# EAGLE library part XC3S-FT256 (library Xilinx)
Spartan 3 chip in a FT256 package for 200, 400 and 1000 dies
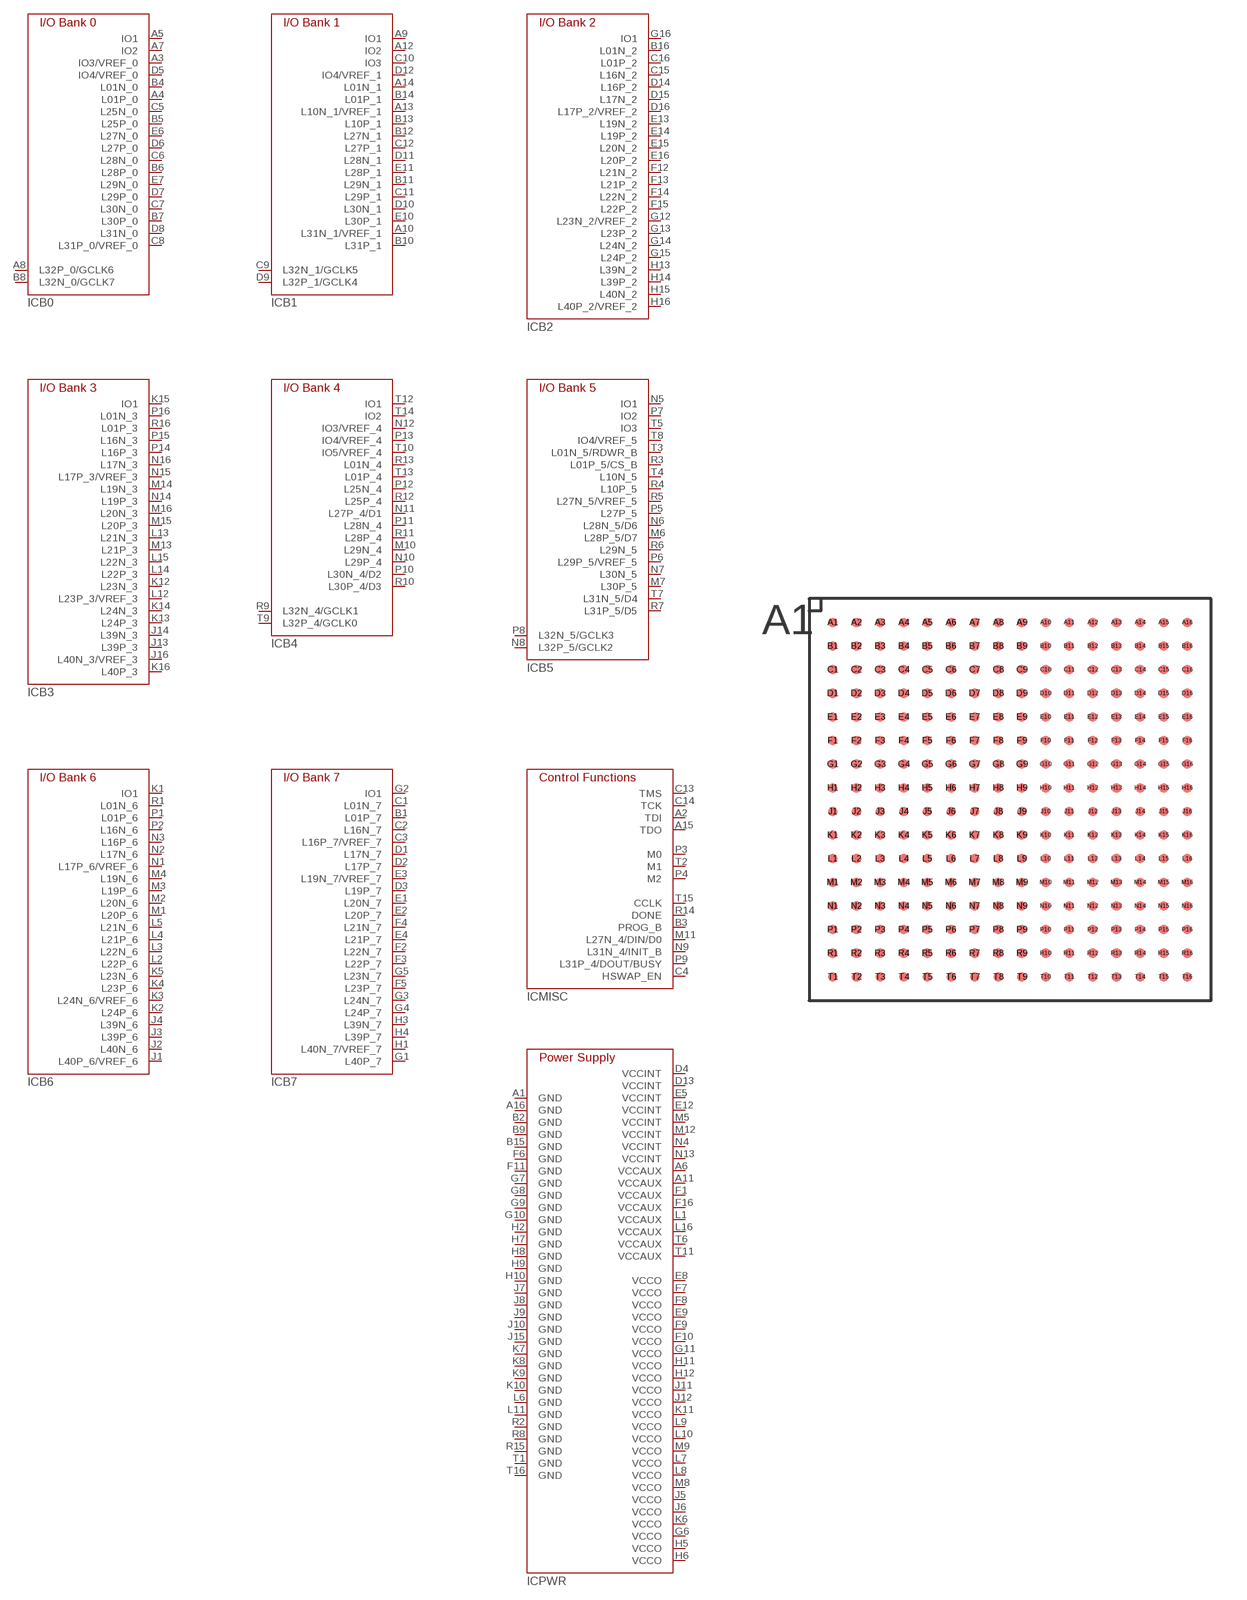
[diagram p27: symbol with the pads of FG256; footprint FG256]

Designator prefix IC; gates B0=XC3S/FT256-B0 B1=XC3S/FT256-B1 B2=XC3S/FT256-B2 B3=XC3S/FT256-B3 B4=XC3S/FT256-B4 B5=XC3S/FT256-B5 B6=XC3S/FT256-B6 B7=XC3S/FT256-B7 MISC=XC3S/FT256-MISC PWR=XC3S/FT256-PWR

## XC3S-FT256  [FG256]
A1  PWR:GND  pwr
A2  MISC:TDI
A3  B0:IO3/VREF_0
A4  B0:L01P_0
A5  B0:IO1
A6  PWR:VCCAUX  pwr
A7  B0:IO2
A8  B0:L32P_0/GCLK6
A9  B1:IO1
A10  B1:L31N_1/VREF_1
A11  PWR:VCCAUX  pwr
A12  B1:IO2
A13  B1:L10N_1/VREF_1
A14  B1:L01N_1
A15  MISC:TDO
A16  PWR:GND  pwr
B1  B7:L01P_7
B2  PWR:GND  pwr
B3  MISC:PROG_B
B4  B0:L01N_0
B5  B0:L25P_0
B6  B0:L28P_0
B7  B0:L30P_0
B8  B0:L32N_0/GCLK7
B9  PWR:GND  pwr
B10  B1:L31P_1
B11  B1:L29N_1
B12  B1:L27N_1
B13  B1:L10P_1
B14  B1:L01P_1
B15  PWR:GND  pwr
B16  B2:L01N_2
C1  B7:L01N_7
C2  B7:L16N_7
C3  B7:L16P_7/VREF_7
C4  MISC:HSWAP_EN
C5  B0:L25N_0
C6  B0:L28N_0
C7  B0:L30N_0
C8  B0:L31P_0/VREF_0
C9  B1:L32N_1/GCLK5
C10  B1:IO3
C11  B1:L29P_1
C12  B1:L27P_1
C13  MISC:TMS
C14  MISC:TCK
C15  B2:L16N_2
C16  B2:L01P_2
D1  B7:L17N_7
D2  B7:L17P_7
D3  B7:L19P_7
D4  PWR:VCCINT  pwr
D5  B0:IO4/VREF_0
D6  B0:L27P_0
D7  B0:L29P_0
D8  B0:L31N_0
D9  B1:L32P_1/GCLK4
D10  B1:L30N_1
D11  B1:L28N_1
D12  B1:IO4/VREF_1
D13  PWR:VCCINT  pwr
D14  B2:L16P_2
D15  B2:L17N_2
D16  B2:L17P_2/VREF_2
E1  B7:L20N_7
E2  B7:L20P_7
E3  B7:L19N_7/VREF_7
E4  B7:L21P_7
E5  PWR:VCCINT  pwr
E6  B0:L27N_0
E7  B0:L29N_0
E8  PWR:VCCO  pwr
E9  PWR:VCCO  pwr
E10  B1:L30P_1
E11  B1:L28P_1
E12  PWR:VCCINT  pwr
E13  B2:L19N_2
E14  B2:L19P_2
E15  B2:L20N_2
E16  B2:L20P_2
F1  PWR:VCCAUX  pwr
F2  B7:L22N_7
F3  B7:L22P_7
F4  B7:L21N_7
F5  B7:L23P_7
F6  PWR:GND  pwr
F7  PWR:VCCO  pwr
F8  PWR:VCCO
F9  PWR:VCCO  pwr
F10  PWR:VCCO
F11  PWR:GND  pwr
F12  B2:L21N_2
F13  B2:L21P_2
F14  B2:L22N_2
F15  B2:L22P_2
F16  PWR:VCCAUX  pwr
G1  B7:L40P_7
G2  B7:IO1
G3  B7:L24N_7
G4  B7:L24P_7
G5  B7:L23N_7
G6  PWR:VCCO  pwr
G7  PWR:GND  pwr
G8  PWR:GND  pwr
G9  PWR:GND  pwr
G10  PWR:GND  pwr
G11  PWR:VCCO  pwr
G12  B2:L23N_2/VREF_2
G13  B2:L23P_2
G14  B2:L24N_2
G15  B2:L24P_2
G16  B2:IO1
H1  B7:L40N_7/VREF_7
H2  PWR:GND  pwr
H3  B7:L39N_7
H4  B7:L39P_7
H5  PWR:VCCO  pwr
H6  PWR:VCCO
H7  PWR:GND  pwr
H8  PWR:GND  pwr
H9  PWR:GND  pwr
H10  PWR:GND  pwr
H11  PWR:VCCO  pwr
H12  PWR:VCCO
H13  B2:L39N_2
H14  B2:L39P_2
H15  B2:L40N_2
H16  B2:L40P_2/VREF_2
J1  B6:L40P_6/VREF_6
J2  B6:L40N_6
J3  B6:L39P_6
J4  B6:L39N_6
J5  PWR:VCCO  pwr
J6  PWR:VCCO  pwr
J7  PWR:GND  pwr
J8  PWR:GND  pwr
J9  PWR:GND  pwr
J10  PWR:GND  pwr
J11  PWR:VCCO  pwr
J12  PWR:VCCO  pwr
J13  B3:L39P_3
J14  B3:L39N_3
J15  PWR:GND  pwr
J16  B3:L40N_3/VREF_3
K1  B6:IO1
K2  B6:L24P_6
K3  B6:L24N_6/VREF_6
K4  B6:L23P_6
K5  B6:L23N_6
K6  PWR:VCCO
K7  PWR:GND  pwr
K8  PWR:GND  pwr
K9  PWR:GND  pwr
K10  PWR:GND  pwr
K11  PWR:VCCO
K12  B3:L23N_3
K13  B3:L24P_3
K14  B3:L24N_3
K15  B3:IO1
K16  B3:L40P_3
L1  PWR:VCCAUX  pwr
L2  B6:L22P_6
L3  B6:L22N_6
L4  B6:L21P_6
L5  B6:L21N_6
L6  PWR:GND  pwr
L7  PWR:VCCO  pwr
L8  PWR:VCCO  pwr
L9  PWR:VCCO  pwr
L10  PWR:VCCO  pwr
L11  PWR:GND  pwr
L12  B3:L23P_3/VREF_3
L13  B3:L21N_3
L14  B3:L22P_3
L15  B3:L22N_3
L16  PWR:VCCAUX  pwr
M1  B6:L20P_6
M2  B6:L20N_6
M3  B6:L19P_6
M4  B6:L19N_6
M5  PWR:VCCINT
M6  B5:L28P_5/D7
M7  B5:L30P_5
M8  PWR:VCCO
M9  PWR:VCCO
M10  B4:L29N_4
M11  MISC:L27N_4/DIN/D0
M12  PWR:VCCINT
M13  B3:L21P_3
M14  B3:L19N_3
M15  B3:L20P_3
M16  B3:L20N_3
N1  B6:L17P_6/VREF_6
N2  B6:L17N_6
N3  B6:L16P_6
N4  PWR:VCCINT
N5  B5:IO1
N6  B5:L28N_5/D6
N7  B5:L30N_5
N8  B5:L32P_5/GCLK2
N9  MISC:L31N_4/INIT_B
N10  B4:L29P_4
N11  B4:L27P_4/D1
N12  B4:IO3/VREF_4
N13  PWR:VCCINT
N14  B3:L19P_3
N15  B3:L17P_3/VREF_3
N16  B3:L17N_3
P1  B6:L01P_6
P2  B6:L16N_6
P3  MISC:M0
P4  MISC:M2
P5  B5:L27P_5
P6  B5:L29P_5/VREF_5
P7  B5:IO2
P8  B5:L32N_5/GCLK3
P9  MISC:L31P_4/DOUT/BUSY
P10  B4:L30N_4/D2
P11  B4:L28N_4
P12  B4:L25N_4
P13  B4:IO4/VREF_4
P14  B3:L16P_3
P15  B3:L16N_3
P16  B3:L01N_3
R1  B6:L01N_6
R2  PWR:GND  pwr
R3  B5:L01P_5/CS_B
R4  B5:L10P_5
R5  B5:L27N_5/VREF_5
R6  B5:L29N_5
R7  B5:L31P_5/D5
R8  PWR:GND
R9  B4:L32N_4/GCLK1
R10  B4:L30P_4/D3
R11  B4:L28P_4
R12  B4:L25P_4
R13  B4:L01N_4
R14  MISC:DONE
R15  PWR:GND
R16  B3:L01P_3
T1  PWR:GND
T2  MISC:M1
T3  B5:L01N_5/RDWR_B
T4  B5:L10N_5
T5  B5:IO3
T6  PWR:VCCAUX  pwr
T7  B5:L31N_5/D4
T8  B5:IO4/VREF_5
T9  B4:L32P_4/GCLK0
T10  B4:IO5/VREF_4
T11  PWR:VCCAUX  pwr
T12  B4:IO1
T13  B4:L01P_4
T14  B4:IO2
T15  MISC:CCLK
T16  PWR:GND

## Footprint FG256 (pad centres in mm)
Fine Pitch Ball Grid Array (FG256/FT256)
smd 0.4 x 0.4: A1 -7.5,7.5; A2 -6.5,7.5; A3 -5.5,7.5; A4 -4.5,7.5; A5 -3.5,7.5; A6 -2.5,7.5; A7 -1.5,7.5; A8 -0.5,7.5; A9 0.5,7.5; A10 1.5,7.5; A11 2.5,7.5; A12 3.5,7.5; A13 4.5,7.5; A14 5.5,7.5; A15 6.5,7.5; A16 7.5,7.5; B1 -7.5,6.5; B2 -6.5,6.5; B3 -5.5,6.5; B4 -4.5,6.5; B5 -3.5,6.5; B6 -2.5,6.5; B7 -1.5,6.5; B8 -0.5,6.5; B9 0.5,6.5; B10 1.5,6.5; B11 2.5,6.5; B12 3.5,6.5; B13 4.5,6.5; B14 5.5,6.5; B15 6.5,6.5; B16 7.5,6.5; C1 -7.5,5.5; C2 -6.5,5.5; C3 -5.5,5.5; C4 -4.5,5.5; C5 -3.5,5.5; C6 -2.5,5.5; C7 -1.5,5.5; C8 -0.5,5.5; C9 0.5,5.5; C10 1.5,5.5; C11 2.5,5.5; C12 3.5,5.5; C13 4.5,5.5; C14 5.5,5.5; C15 6.5,5.5; C16 7.5,5.5; D1 -7.5,4.5; D2 -6.5,4.5; D3 -5.5,4.5; D4 -4.5,4.5; D5 -3.5,4.5; D6 -2.5,4.5; D7 -1.5,4.5; D8 -0.5,4.5; D9 0.5,4.5; D10 1.5,4.5; D11 2.5,4.5; D12 3.5,4.5; D13 4.5,4.5; D14 5.5,4.5; D15 6.5,4.5; D16 7.5,4.5; E1 -7.5,3.5; E2 -6.5,3.5; E3 -5.5,3.5; E4 -4.5,3.5; E5 -3.5,3.5; E6 -2.5,3.5; E7 -1.5,3.5; E8 -0.5,3.5; E9 0.5,3.5; E10 1.5,3.5; E11 2.5,3.5; E12 3.5,3.5; E13 4.5,3.5; E14 5.5,3.5; E15 6.5,3.5; E16 7.5,3.5; F1 -7.5,2.5; F2 -6.5,2.5; F3 -5.5,2.5; F4 -4.5,2.5; F5 -3.5,2.5; F6 -2.5,2.5; F7 -1.5,2.5; F8 -0.5,2.5; F9 0.5,2.5; F10 1.5,2.5; F11 2.5,2.5; F12 3.5,2.5; F13 4.5,2.5; F14 5.5,2.5; F15 6.5,2.5; F16 7.5,2.5; G1 -7.5,1.5; G2 -6.5,1.5; G3 -5.5,1.5; G4 -4.5,1.5; G5 -3.5,1.5; G6 -2.5,1.5; G7 -1.5,1.5; G8 -0.5,1.5; G9 0.5,1.5; G10 1.5,1.5; G11 2.5,1.5; G12 3.5,1.5; G13 4.5,1.5; G14 5.5,1.5; G15 6.5,1.5; G16 7.5,1.5; H1 -7.5,0.5; H2 -6.5,0.5; H3 -5.5,0.5; H4 -4.5,0.5; H5 -3.5,0.5; H6 -2.5,0.5; H7 -1.5,0.5; H8 -0.5,0.5; H9 0.5,0.5; H10 1.5,0.5; H11 2.5,0.5; H12 3.5,0.5; H13 4.5,0.5; H14 5.5,0.5; H15 6.5,0.5; H16 7.5,0.5; J1 -7.5,-0.5; J2 -6.5,-0.5; J3 -5.5,-0.5; J4 -4.5,-0.5; J5 -3.5,-0.5; J6 -2.5,-0.5; J7 -1.5,-0.5; J8 -0.5,-0.5; J9 0.5,-0.5; J10 1.5,-0.5; J11 2.5,-0.5; J12 3.5,-0.5; J13 4.5,-0.5; J14 5.5,-0.5; J15 6.5,-0.5; J16 7.5,-0.5; K1 -7.5,-1.5; K2 -6.5,-1.5; K3 -5.5,-1.5; K4 -4.5,-1.5; K5 -3.5,-1.5; K6 -2.5,-1.5; K7 -1.5,-1.5; K8 -0.5,-1.5; K9 0.5,-1.5; K10 1.5,-1.5; K11 2.5,-1.5; K12 3.5,-1.5; K13 4.5,-1.5; K14 5.5,-1.5; K15 6.5,-1.5; K16 7.5,-1.5; L1 -7.5,-2.5; L2 -6.5,-2.5; L3 -5.5,-2.5; L4 -4.5,-2.5; L5 -3.5,-2.5; L6 -2.5,-2.5; L7 -1.5,-2.5; L8 -0.5,-2.5; L9 0.5,-2.5; L10 1.5,-2.5; L11 2.5,-2.5; L12 3.5,-2.5; L13 4.5,-2.5; L14 5.5,-2.5; L15 6.5,-2.5; L16 7.5,-2.5; M1 -7.5,-3.5; M2 -6.5,-3.5; M3 -5.5,-3.5; M4 -4.5,-3.5; M5 -3.5,-3.5; M6 -2.5,-3.5; M7 -1.5,-3.5; M8 -0.5,-3.5; M9 0.5,-3.5; M10 1.5,-3.5; M11 2.5,-3.5; M12 3.5,-3.5; M13 4.5,-3.5; M14 5.5,-3.5; M15 6.5,-3.5; M16 7.5,-3.5; N1 -7.5,-4.5; N2 -6.5,-4.5; N3 -5.5,-4.5; N4 -4.5,-4.5; N5 -3.5,-4.5; N6 -2.5,-4.5; N7 -1.5,-4.5; N8 -0.5,-4.5; N9 0.5,-4.5; N10 1.5,-4.5; N11 2.5,-4.5; N12 3.5,-4.5; N13 4.5,-4.5; N14 5.5,-4.5; N15 6.5,-4.5; N16 7.5,-4.5; P1 -7.5,-5.5; P2 -6.5,-5.5; P3 -5.5,-5.5; P4 -4.5,-5.5; P5 -3.5,-5.5; P6 -2.5,-5.5; P7 -1.5,-5.5; P8 -0.5,-5.5; P9 0.5,-5.5; P10 1.5,-5.5; P11 2.5,-5.5; P12 3.5,-5.5; P13 4.5,-5.5; P14 5.5,-5.5; P15 6.5,-5.5; P16 7.5,-5.5; R1 -7.5,-6.5; R2 -6.5,-6.5; R3 -5.5,-6.5; R4 -4.5,-6.5; R5 -3.5,-6.5; R6 -2.5,-6.5; R7 -1.5,-6.5; R8 -0.5,-6.5; R9 0.5,-6.5; R10 1.5,-6.5; R11 2.5,-6.5; R12 3.5,-6.5; R13 4.5,-6.5; R14 5.5,-6.5; R15 6.5,-6.5; R16 7.5,-6.5; T1 -7.5,-7.5; T2 -6.5,-7.5; T3 -5.5,-7.5; T4 -4.5,-7.5; T5 -3.5,-7.5; T6 -2.5,-7.5; T7 -1.5,-7.5; T8 -0.5,-7.5; T9 0.5,-7.5; T10 1.5,-7.5; T11 2.5,-7.5; T12 3.5,-7.5; T13 4.5,-7.5; T14 5.5,-7.5; T15 6.5,-7.5; T16 7.5,-7.5